# EAGLE library part DS1307 (library thomas_library)
The DS1307 is an I2C RTC from Maxim IC
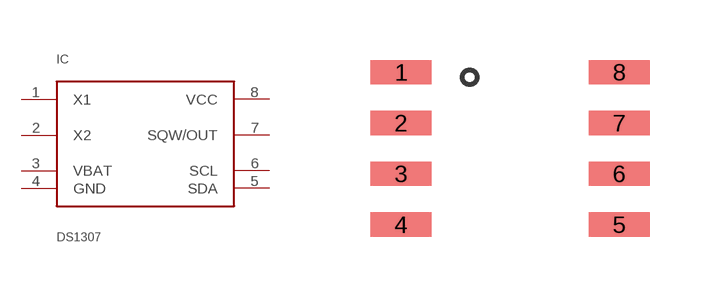
[diagram p21: symbol with the pads of SO_8; footprint SO_8]

Designator prefix IC

## DS1307  [SO_8]
1  X1
2  X2
3  VBAT
4  GND
5  SDA
6  SCL
7  SQW/OUT
8  VCC

## Footprint SO_8 (pad centres in mm)
smd 1.524 x 0.61: 1 -2.731,1.905; 2 -2.731,0.635; 3 -2.731,-0.635; 4 -2.731,-1.905; 5 2.731,-1.905; 6 2.731,-0.635; 7 2.731,0.635; 8 2.731,1.905